# Altium schematic symbol library Fuse Schematics.SchLib: 3 symbols
Pins are listed as number, name and electrical type; pins without a type are passive.

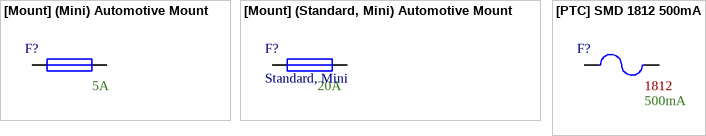
[diagram p0: symbols [Mount] (Mini) Automotive Mount to [PTC] SMD 1812 500mA]

## [Mount] (Mini) Automotive Mount
designator F?, comment Ampacity: 5A  (hidden comment: Mini)
3568; Supplier 1: DigiKey; Supplier Part Number 1: 36-3568-ND
footprint [Mount] (Mini) Automotive Mount (3568)
pins: 1, 2

## [Mount] (Standard, Mini) Automotive Mount
designator F?, comment Standard, Mini  Ampacity: 20A
178.6165.0002; Supplier 1: DigiKey; Supplier Part Number 1: WK6265-ND
footprint [Mount] Thru-Hole Blade
pins: 1, 2

## [PTC] SMD 1812 500mA
designator F?  Size Package: 1812  Trip Current: 500mA
MF-MSMF050-2; Supplier 1: DigiKey; Supplier Part Number 1: MF-MSMF050-2DKR-ND
footprint [PTC] SMD 1812
pins: 1, 2